# Altium schematic symbol library TLV9004SIRTER.Schlib: 1 symbol
Pins are listed as number, name and electrical type; pins without a type are passive.

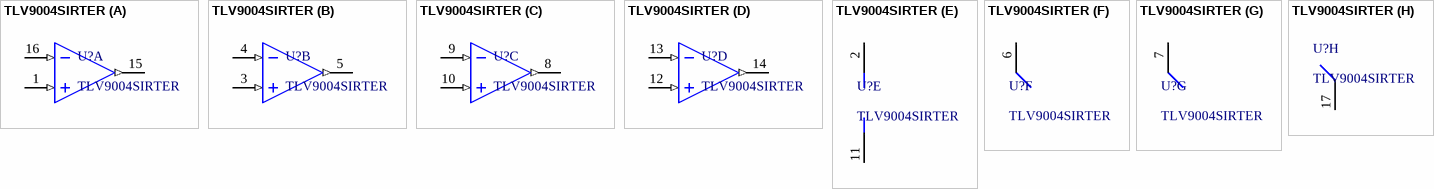
[diagram p0: symbol TLV9004SIRTER]

## TLV9004SIRTER
designator U?
General Purpose Amplifier 4 Circuit Rail-to-Rail 16-WQFN (3x3)
part A pins: 1 IN1+ (in), 15 OUT1 (out), 16 IN1- (in)
part B pins: 3 IN2+ (in), 4 IN2- (in), 5 OUT2 (out)
part C pins: 8 OUT3 (out), 9 IN3- (in), 10 IN3+ (in)
part D pins: 12 IN4+ (in), 13 IN4- (in), 14 OUT4 (out)
part E pins: 2 V+ (power), 11 V- (power)
part F pins: 6 ~{SHDN}12 (power)
part G pins: 7 ~{SHDN}34 (power)
part H pins: 17 PAD (power)